# Altium footprint library MAX14515AEWA+T.PcbLib: 1 footprints
Each footprint in its own frame and in the unit in brackets; x right, y up, seen from the top. Pads: shape width x height; smd on the part's side, far side on the other; paste and mask are expansions set on the pad; w line width, h text height; cw(c..) or ccw(c..) is an arc to the next point about the centre after c.
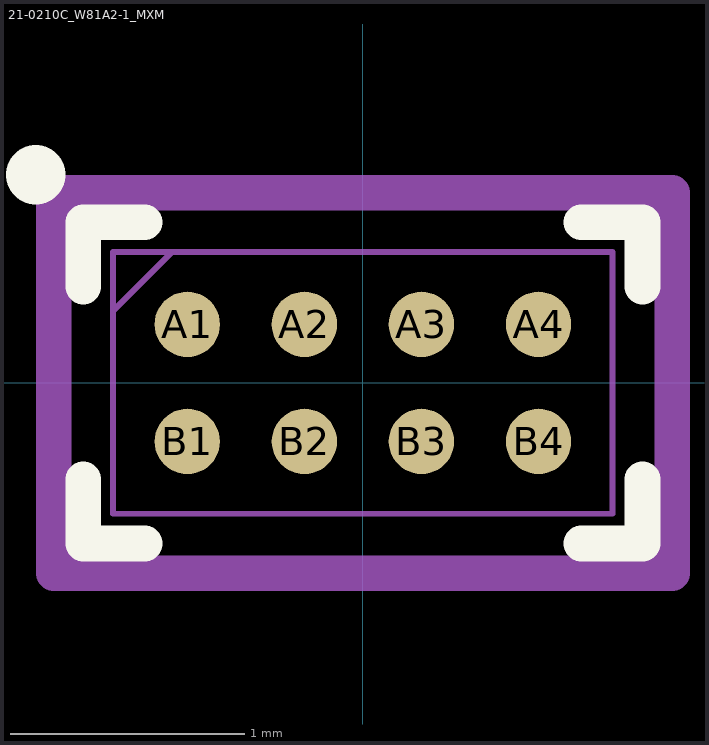
[diagram p0: the footprint, top view; thin cyan lines are the x and y axes]

## 21-0210C_W81A2-1_MXM [mm]
pads (8):
  round 0.279 smd paste+0 mask+0: A1(-0.75,0.25) A2(-0.25,0.25) A3(0.25,0.25) A4(0.75,0.25) B1(-0.75,-0.25) B2(-0.25,-0.25) B3(0.25,-0.25) B4(0.75,-0.25)
Top Overlay:
  circle w0.254: c-1.397,0.889 r0
  lines w0.152: -1.194,-0.412 -1.194,-0.686 -0.932,-0.686 ; -1.194,0.412 -1.194,0.686 -0.932,0.686 ; 0.932,-0.686 1.194,-0.686 1.194,-0.412 ; 0.932,0.686 1.194,0.686 1.194,0.412
Mechanical 13:
  lines w0.025: -1.067,0.309 -0.817,0.559 ; -1.067,-0.559 1.067,-0.559 1.067,0.559 -1.067,0.559 -1.067,-0.559
Mechanical 15:
  lines w0.152: -1.321,-0.813 -1.321,0.813 1.321,0.813 1.321,-0.813 -1.321,-0.813
3D body "21-0210C_W81A2-1_MXM.step": height 0.69, standoff 0, extent -1.067,-0.559 1.067,0.559